# EAGLE library part B6B-ZR (library JST_CONNECTOR)
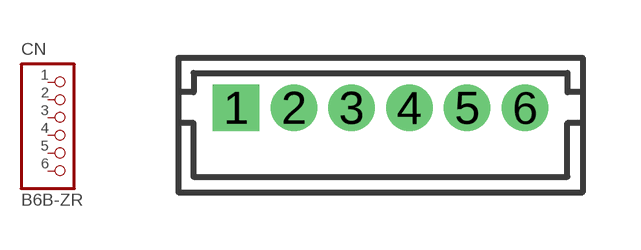
[diagram p0: symbol with the pads of B6B-ZR; footprint B6B-ZR]

Designator prefix CN

## B6B-ZR  [B6B-ZR]
1  1  pas
2  2  pas
3  3  pas
4  4  pas
5  5  pas
6  6  pas

## Footprint B6B-ZR (pad centres in mm)
drill 0.7 square: 1 -3.75,0
drill 0.7: 2 -2.25,0; 3 -0.75,0; 4 0.75,0; 5 2.25,0; 6 3.75,0